# EAGLE library part ADAFRUIT_I2SDAC (library ENGR294-Speaker)
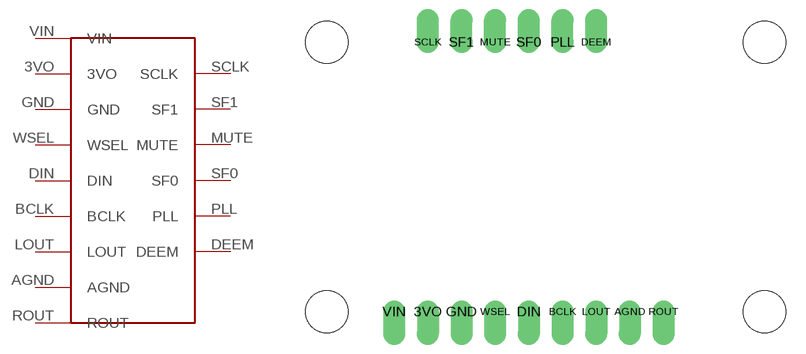
[diagram p0: symbol with the pads of UDA1334; footprint UDA1334]

Designator prefix -

## ADAFRUIT_I2SDAC  [UDA1334]
3VO  3VO
AGND  AGND
BCLK  BCLK
DEEM  DEEM
DIN  DIN
GND  GND
LOUT  LOUT
MUTE  MUTE
PLL  PLL
ROUT  ROUT
SCLK  SCLK
SF0  SF0
SF1  SF1
VIN  VIN
WSEL  WSEL

## Footprint UDA1334 (pad centres in mm)
drill 1 pad 1.676 offset: 3VO 10.16,2.54; AGND 25.4,2.54; BCLK 20.32,2.54; DEEM 22.86,22.86; DIN 17.78,2.54; GND 12.7,2.54; LOUT 22.86,2.54; MUTE 15.24,22.86; PLL 20.32,22.86; ROUT 27.94,2.54; SCLK 10.16,22.86; SF0 17.78,22.86; SF1 12.7,22.86; VIN 7.62,2.54; WSEL 15.24,2.54
hole 3.175 at 2.54,2.54
hole 3.175 at 2.54,22.86
hole 3.175 at 35.56,22.86
hole 3.175 at 35.56,2.54